# EAGLE library part 5747840-6 (library 5747840-6)
9 way r/a PCB D plug w/screw lock,6A Source: Datasheet <https://datasheet.datasheetarchive.com/originals/distributors/Datasheets_SAMA/6d328899bf3b4d94f3f5cd289f57cd42.pdf>
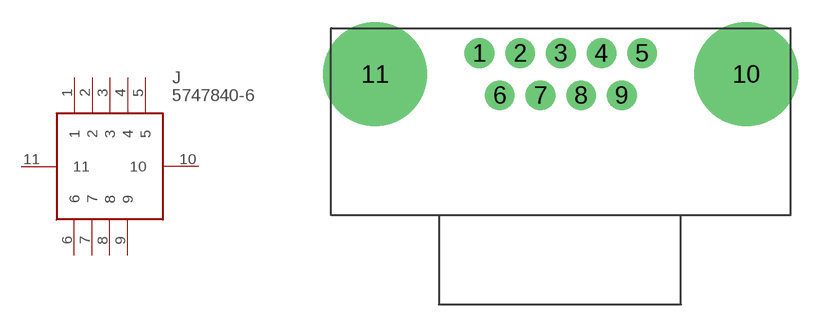
[diagram p0: symbol with the pads of TE-5747840-6; footprint TE-5747840-6]

Designator prefix J

## 5747840-6 (Description: 9 way r/a PCB D plug w/screw lock,6A; Height: 12.6mm; Manufacturer_Name: TE Connectivity; Manufacturer_Part_Number: 5747840-6; Mouser_Part_Number: 571-5747840-6; Mouser_Price-Stock: https://www.mouser.co.uk/ProductDetail/TE-Connectivity/5747840-6?qs=x6EjVpvqMVN1FSGGZ1Dvpg%3D%3D)  [TE-5747840-6]
1  1
2  2
3  3
4  4
5  5
6  6
7  7
8  8
9  9
10  10
11  11

## Footprint TE-5747840-6 (pad centres in mm)
5747840-6
drill 1.05 pad 2: 1 -5.48,0; 2 -2.74,0; 3 0,0; 4 2.74,0; 5 5.48,0; 6 -4.11,-2.84; 7 -1.37,-2.84; 8 1.37,-2.84; 9 4.11,-2.84
drill 3.2 pad 7: 10 12.49,-1.42; 11 -12.51,-1.42